# EAGLE library part PIC16F1503 (library pimoroni-ics)
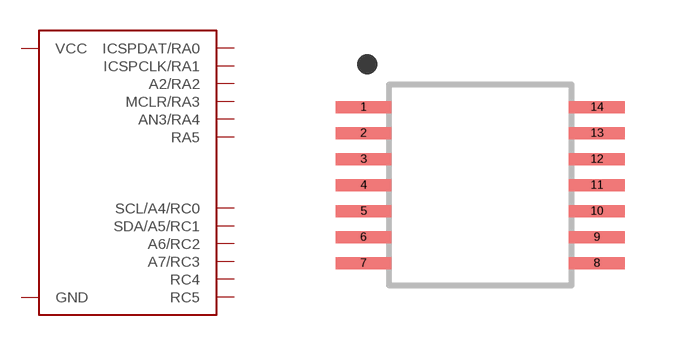
[diagram p15: symbol with the pads of TSSOP-14; footprint TSSOP-14]

Designator prefix -

## PIC16F1503  [TSSOP-14]
1  VCC
2  RA5
3  AN3/RA4
4  MCLR/RA3
5  RC5
6  RC4
7  A7/RC3
8  A6/RC2
9  SDA/A5/RC1
10  SCL/A4/RC0
11  A2/RA2
12  ICSPCLK/RA1
13  ICSPDAT/RA0
14  GND

## Footprint TSSOP-14 (pad centres in mm)
smd 1.4 x 0.3: 1 -2.918,1.95; 2 -2.918,1.3; 3 -2.918,0.65; 4 -2.918,0; 5 -2.918,-0.65; 6 -2.918,-1.3; 7 -2.918,-1.95; 8 2.918,-1.95; 9 2.918,-1.3; 10 2.918,-0.65; 11 2.918,0; 12 2.918,0.65; 13 2.918,1.3; 14 2.918,1.95